# Altium schematic symbol library RF.Couplers.SchLib: 9 symbols
Pins are listed as number, name and electrical type; pins without a type are passive.

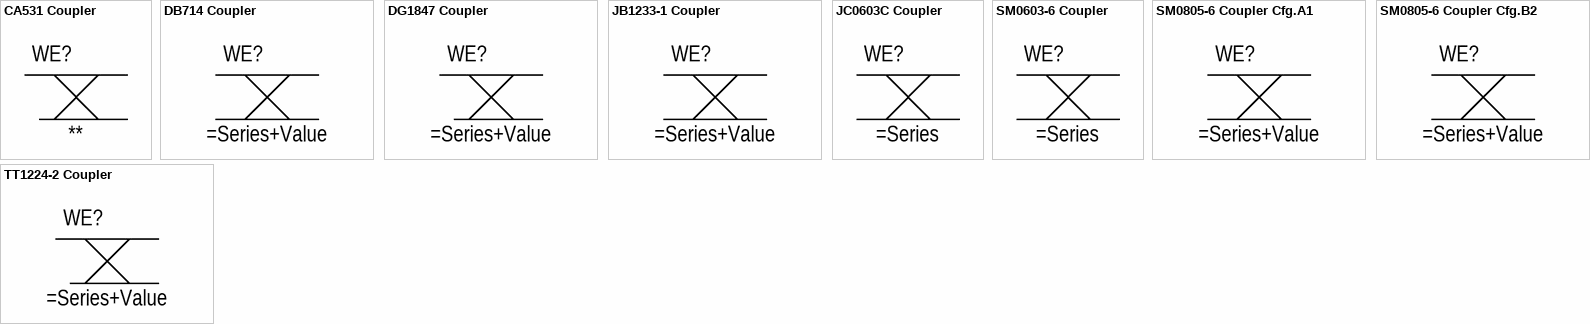
[diagram p0: symbols CA531 Coupler to TT1224-2 Coupler]

## CA531 Coupler
designator WE?, comment **
RF Coupler, CA531 Package, 6 Leads; Series: *; Value: *
pins: 1 GND hidden to GND, 2 GND hidden to GND, 3 COUPLED, 4 IN, 5 GND hidden to GND, 6 OUT

## DB714 Coupler
designator WE?
RF Directional Coupler, DB714 Package
pins: 1 Coupled, 2 GND hidden to GND, 3 Input, 4 Output, 6 Terminal

## DG1847 Coupler
designator WE?
RF Directional Coupler, DG1847 Package
pins: 1 hidden to GND, 2 Input, 3 hidden to GND, 4 hidden to GND, 5 hidden to GND, 6 hidden to GND, 7 Coupled, 8 hidden to GND, 9 hidden to GND, 10 hidden to GND, 11 hidden to GND, 12 hidden to GND, 13 hidden to GND, 14 hidden to GND, 15 hidden to GND, 16 Output, 17 hidden to GND, 18 hidden to GND, 19 hidden to GND, 20 hidden to GND, 21 hidden to GND, 22 hidden to GND, 23 hidden to GND, 24 hidden to GND, PAD GND hidden to GND

## JB1233-1 Coupler
designator WE?
RF Bi-Directional Coupler, JB1233 Package
pins: 3 Coupled, 3 Input, 4 Output, 5 GND hidden to GND, 6 Coupled Out

## JC0603C Coupler
designator WE?
RF Directional Coipler, JC0603C Package
pins: 1 Input, 2 GND hidden to GND, 3 Termination, 4 Output, 5 GND hidden to GND, 6 Coupled

## SM0603-6 Coupler
designator WE?
RF Directional Coupler, SM0603-6 Package
pins: 1 Input, 2 GND hidden to GND, 3 Output, 4 Termination, 5 GND hidden to GND, 6 Coupled

## SM0805-6 Coupler Cfg.A1
designator WE?
RF Directional Coupler, 0805 6-Lead Package, Pin Configuration A1 (1-Input, 4-Output); Coupling: *; Impedance: *; Package: *; Index: *; FH: *; FL: *; Series: *
pins: 1 Input, 2 GND hidden to GND, 3 Isolated, 4 Direct, 5 GND hidden to GND, 6 Coupled

## SM0805-6 Coupler Cfg.B2
designator WE?
RF Directional Coupler, 0805 6-Lead Package, Pin Configuration B2 (6-Input, 1-Output); Coupling: *; Impedance: *; Package: *; Index: *; FH: *; FL: *; Series: *
pins: 1 Direct, 2 Isolated, 3 GND hidden to GND, 4 GND hidden to GND, 5 Coupled, 6 Input

## TT1224-2 Coupler
designator WE?
RF Coupler, TT1224-2 Package, 6 Leads
pins: 1 COUPLED, 2 GND hidden to GND, 3 IN, 4 OUT, 5 GND hidden to GND, 6 GND hidden to GND